# EAGLE library part WGM110-A (library jetney-silabs-modules)
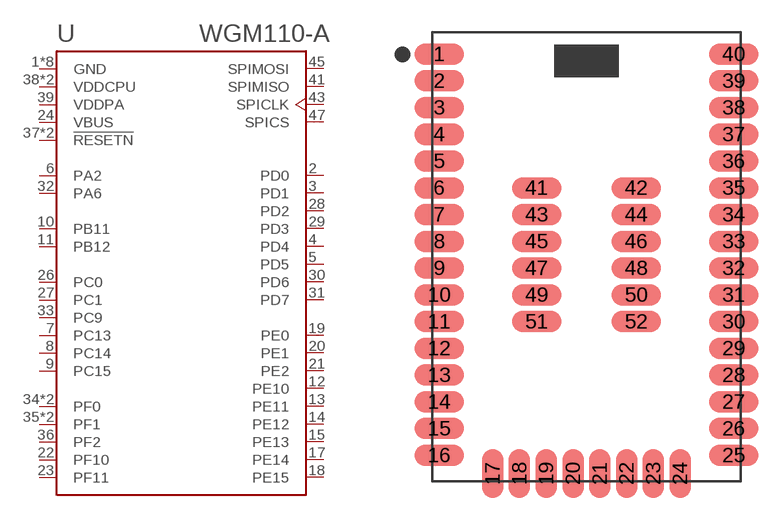
[diagram p34: symbol with the pads of WGM110-A; footprint WGM110-A]

Designator prefix U

## WGM110-A  [WGM110-A]
1  GND  pwr
2  PD0
3  PD1
4  PD4
5  PD5
6  PA2
7  PC13
8  PC14
9  PC15
10  PB11
11  PB12
12  PE10
13  PE11
14  PE12
15  PE13
16  GND  pwr
17  PE14
18  PE15
19  PE0
20  PE1
21  PE2
22  PF10
23  PF11
24  VBUS  pwr
25  GND  pwr
26  PC0
27  PC1
28  PD2
29  PD3
30  PD6
31  PD7
32  PA6
33  PC9
34  PF0
35  PF1
36  PF2
37  !RESETN  in
38  VDDCPU  pwr
39  VDDPA  pwr
40  GND  pwr
41  SPIMISO  out
42  GND  pwr
43  SPICLK  in
44  GND  pwr
45  SPIMOSI  in
46  GND  pwr
47  SPICS  in
48  GND  pwr
49  !RESETN  in
50  PF0
51  VDDCPU  pwr
52  PF1

## Footprint WGM110-A (pad centres in mm)
smd 2.3 x 1: 1 -6.875,9.47; 2 -6.875,8.22; 3 -6.875,6.97; 4 -6.875,5.72; 5 -6.875,4.47; 6 -6.875,3.22; 7 -6.875,1.97; 8 -6.875,0.72; 9 -6.875,-0.53; 10 -6.875,-1.78; 11 -6.875,-3.03; 12 -6.875,-4.28; 13 -6.875,-5.53; 14 -6.875,-6.78; 15 -6.875,-8.03; 16 -6.875,-9.28; 25 6.875,-9.28; 26 6.875,-8.03; 27 6.875,-6.78; 28 6.875,-5.53; 29 6.875,-4.28; 30 6.875,-3.03; 31 6.875,-1.78; 32 6.875,-0.53; 33 6.875,0.72; 34 6.875,1.97; 35 6.875,3.22; 36 6.875,4.47; 37 6.875,5.72; 38 6.875,6.97; 39 6.875,8.22; 40 6.875,9.47; 41 -2.325,3.22; 42 2.325,3.22; 43 -2.325,1.97; 44 2.325,1.97; 45 -2.325,0.72; 46 2.325,0.72; 47 -2.325,-0.53; 48 2.325,-0.53; 49 -2.325,-1.78; 50 2.325,-1.78; 51 -2.325,-3.03; 52 2.325,-3.03
smd 1 x 2.3: 17 -4.375,-10.13; 18 -3.125,-10.13; 19 -1.875,-10.13; 20 -0.625,-10.13; 21 0.625,-10.13; 22 1.875,-10.13; 23 3.125,-10.13; 24 4.375,-10.13